# Altium schematic symbol library INA180B.Schlib: 1 symbol
Pins are listed as number, name and electrical type; pins without a type are passive.

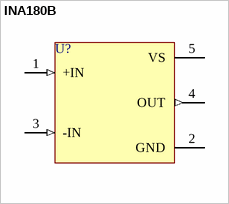
[diagram p0: symbol INA180B]

## INA180B
designator U?
Current-Sense Amplifiers
pins: 1 +IN (in), 2 GND (power), 3 -IN (in), 4 OUT (out), 5 VS (power)